# Altium footprint library FH34SRJ-45S-0.5SH.PcbLib: 1 footprints
Each footprint in its own frame and in the unit in brackets; x right, y up, seen from the top. Pads: shape width x height; smd on the part's side, far side on the other; paste and mask are expansions set on the pad; w line width, h text height; cw(c..) or ccw(c..) is an arc to the next point about the centre after c.
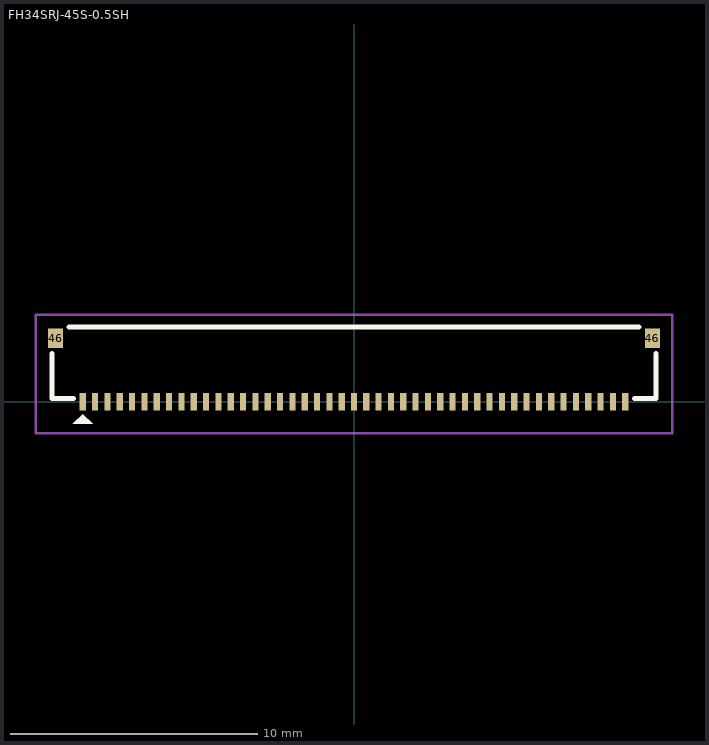
[diagram p0: the footprint, top view; thin cyan lines are the x and y axes]

## FH34SRJ-45S-0.5SH [mm]
pads (47):
  rect 0.25x0.7 smd: 1(-11,0) 2(-10.5,0) 3(-10,0) 4(-9.5,0) 5(-9,0) 6(-8.5,0) 7(-8,0) 8(-7.5,0) 9(-7,0) 10(-6.5,0) 11(-6,0) 12(-5.5,0) 13(-5,0) 14(-4.5,0) 15(-4,0) 16(-3.5,0) 17(-3,0) 18(-2.5,0) 19(-2,0) 20(-1.5,0) 21(-1,0) 22(-0.5,0) 23(0,0) 24(0.5,0) 25(1,0) 26(1.5,0) 27(2,0) 28(2.5,0) 29(3,0) 30(3.5,0) 31(4,0) 32(4.5,0) 33(5,0) 34(5.5,0) 35(6,0) 36(6.5,0) 37(7,0) 38(7.5,0) 39(8,0) 40(8.5,0) 41(9,0) 42(9.5,0) 43(10,0) 44(10.5,0) 45(11,0)
  rect 0.6x0.8 smd: 46(-12.1,2.575) 46(12.1,2.575)
Top Overlay:
  region: -10.6,-0.9 -11.4,-0.9 -11,-0.5
  lines w0.2: -12.25,1.95 -12.25,0.125 -11.375,0.125 ; -11.55,3.025 11.55,3.025 ; 11.375,0.125 12.25,0.125 12.25,1.95
Top Courtyard:
  lines w0.1: -12.9,-1.275 -12.25,-1.275 12.9,-1.275 12.9,3.525 -12.9,3.525 -12.9,-1.275
3D body "WFH-1600330.stp": height 1, standoff 0, extent -12.25,-0.775 12.25,3.025